# Altium schematic symbol library Connector 20_V.Schlib: 1 symbol
Pins are listed as number, name and electrical type; pins without a type are passive.

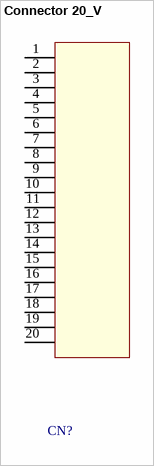
[diagram p0: symbol Connector 20_V]

## Connector 20_V
designator CN?  (value not drawn)
Connector 20 Pin Vertical
pins: 1 0, 2 1, 3 2, 4 3, 5 4, 6 5, 7 6, 8 7, 9 8, 10 9, 11 10, 12 11, 13 12, 14 13, 15 14, 16 15, 17 16, 18 17, 19 18, 20 19